# Altium footprint library OTHER.PCBLIB: 126 footprints (part 1 of 8)
Each footprint in its own frame and in the unit in brackets; x right, y up, seen from the top. Pads: shape width x height; smd on the part's side, far side on the other; paste and mask are expansions set on the pad; w line width, h text height; cw(c..) or ccw(c..) is an arc to the next point about the centre after c.
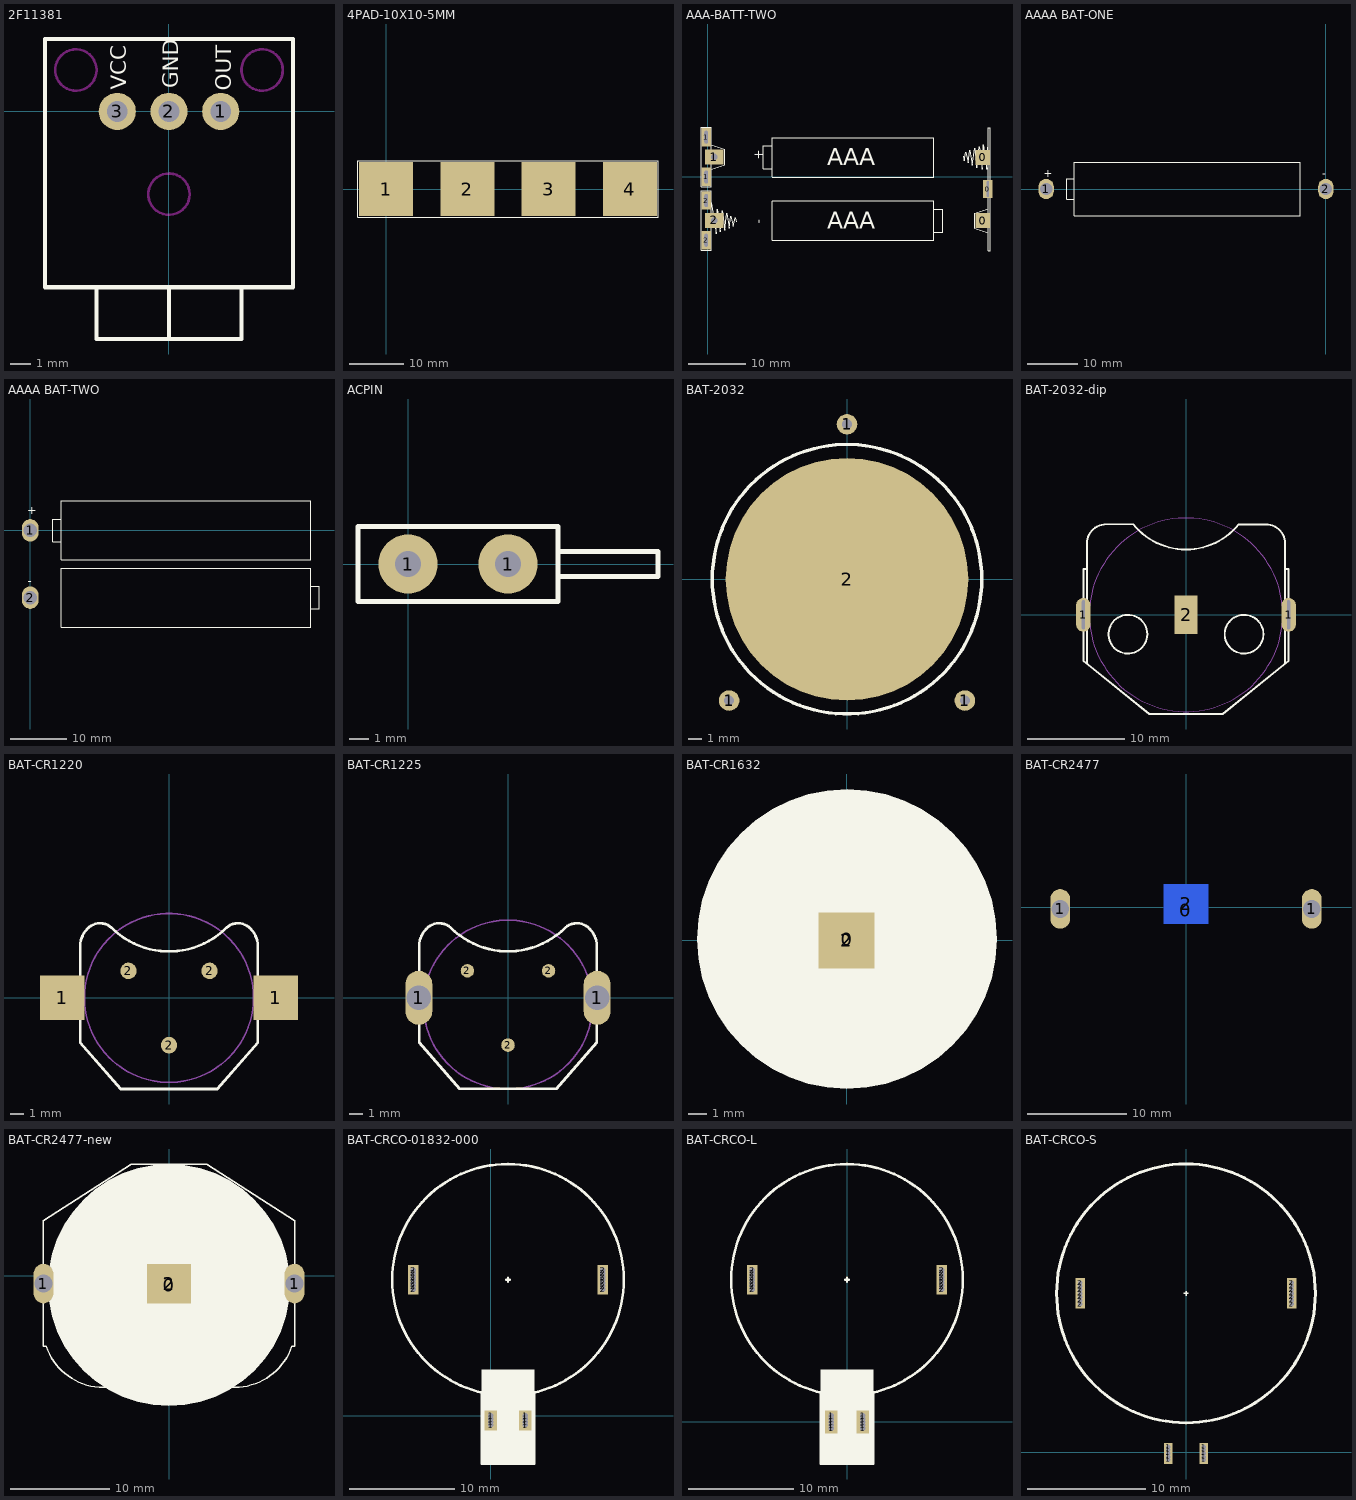
[diagram p0: the footprints below, top view; thin cyan lines are the x and y axes]

## 2F11381 [mm]
pads (3):
  round 1.8 hole 1: 1(2.5,0) 2(0,0) 3(-2.5,0)
TopOverlay:
  lines w0.203: -3.5,-8.5 -3.5,-11 3.5,-11 3.5,-8.5 ; 0,-11 0,-8.5 ; 0,-8.5 -6,-8.5 -6,3.5 6,3.5 6,-8.5 0,-8.5
  text "OUT" at 3,1 h0.76
  text "VCC" at -2.074,1.049 h0.76
  text "GND" at 0.45,1.124 h0.76
KeepOutLayer:
  circle w0.127: c0,-4 r1
  circle w0.127: c4.5,2 r1
  circle w0.127: c-4.5,2 r1

## 4PAD-10X10-5MM [mm]
pads (4):
  rect 10x10 smd: 1(0,0) 2(15,0) 3(30,0) 4(45,0)
TopOverlay:
  lines w0.127: -5.2,-5.2 -5.2,5.2 50.2,5.2 50.2,-5.2 -5.2,-5.2

## AAA-BATT-TWO [mm] "AAA-BATT-TWO"
pads (9):
  rect 2.5x2.6 smd: 0(47.7,-7.6) 0(47.703,3.406)
  rect 1.6x3.2 hole 0.42 slot 2.7 at 90 deg: 0(48.6,-2.1)
  rect 1.6x3.2 hole 0.6 slot 2.2 at 90 deg: 1(-0.3,0) 1(-0.3,6.9) 2(-0.3,-11) 2(-0.3,-4.1)
  rect 3.2x2.6 hole 1.2: 1(1.1,3.45) 2(1.1,-7.55)
TopOverlay:
  lines w0.127: 11.1,1.4 9.6,1.4 9.6,5.4 11.1,5.4 ; 11.2,-4.2 11.2,-11 39.2,-11 39.2,-4.2 ; 11.2,-4.15 39.2,-4.15 ; 11.2,-0.05 39.2,-0.05 ; 11.2,0 11.2,6.8 39.2,6.8 39.2,0 ; 39.3,-9.6 40.8,-9.6 40.8,-5.6 39.3,-5.6
  lines w0.2: 0.596,-4.501 1.4,-9.9 1.6,-5.6 2.1,-9.5 2.5,-5.9 2.9,-9.3 3.3,-6.3 3.7,-8.9 4,-6.8 4.4,-8.6 4.7,-7.1 4.876,-7.806 ; 0.6,0 0.6,6.9 0.6,8.6 0.15,8.6 -0.75,8.6 -1.2,8.6 -1.2,-1.7 0.6,-1.7 0.6,0.2 ; 0.6,1.3 2.9,2.1 ; 0.6,5.6 2.9,4.8 ; 44.3,3.6 44.5,2.8 44.8,4.3 45.2,2.5 45.5,4.6 45.9,2 46.3,5 46.7,1.6 47.1,5.2 47.6,1.3 47.8,5.6 48.437,1.32 48.7,5.9 ; 48.7,-9.7 46.3,-8.952 46.3,-7.925 46.3,-6.575 46.3,-6.283 48.7,-5.5 ; 2.9,2.1 2.9,4.8 ; 2.9,2.1 2.9,4.8 ; -1.2,-12.7 0.6,-12.7 0.6,-11 0.6,-4.1 0.6,-2.4 -1.2,-2.4 -1.2,-12.7 ; 48.7,-12.8 49,-12.8 49,8.5 48.7,8.5 48.7,-12.8
  text "+" at 9.5,3 h1.52
  text "-" at 9.5,-8.1 h1.52
  text "AAA" at 20.7,2 h3
  text "AAA" at 20.7,-9 h3

## AAAA BAT-ONE [mm]
pads (2):
  oval 3x4 hole 2.4: 1(-55,0) 2(0,0)
TopOverlay:
  lines w0.127: -49.5,-2 -51,-2 -51,2 -49.5,2 ; -49.5,-5.25 -49.5,5.25 -5,5.25 -5,-5.25 -49.5,-5.25
  text "+" at -55.5,2.3 h1.52
  text "-" at -0.7,2.3 h1.52

## AAAA BAT-TWO [mm]
pads (2):
  oval 3x4 hole 2.4: 1(0,0) 2(0,-12)
TopOverlay:
  lines w0.127: 5.5,-2 4,-2 4,2 5.5,2 ; 50,-14 51.5,-14 51.5,-10 50,-10 ; 5.5,-17.25 5.5,-6.75 50,-6.75 50,-17.25 5.5,-17.25 ; 5.5,-5.25 5.5,5.25 50,5.25 50,-5.25 5.5,-5.25
  text "-" at -0.4,-9.7 h1.52
  text "+" at -0.5,2.9 h1.52

## ACPIN [mm]
pads (2):
  round 3 hole 1.3: 1(0,0) 1(5.08,0)
TopOverlay:
  lines w0.25: 7.62,-0.635 12.7,-0.635 12.7,0.635 7.62,0.635 ; -2.54,-1.905 7.62,-1.905 7.62,1.905 -2.54,1.905 -2.54,-1.905

## BAT-2032 [mil]
pads (4):
  round 60 hole 30: 1(-344.49,-354.33) 1(0,452.76) 1(344.49,-354.33)
  round 708.66 smd: 2(0,0)
TopOverlay:
  circle w10: c0,0 r393.7

## BAT-2032-dip [mm] "BAT-2032-dip"
pads (3):
  oval 1.5x3.5 hole 0.3 slot 3 at 90 deg: 1(-10.6,0) 1(10.6,0)
  rect 2.4x4 smd: 2(0,0)
TopOverlay:
  circle w0.2: c6,-2 r2
  circle w0.2: c-6,-2 r2
  lines w0.2: -10.25,-5 -10.25,7.354 cw(c-8.25,7.354) -8.25,9.354 -5.447,9.353 ccw(c0,13.75) 5.447,9.353 ; -10.25,4.75 -10.6,4.75 -10.6,0 -10.6,-4.75 -3.8,-10.25 3.8,-10.25 10.6,-4.75 10.6,0 10.6,4.75 10.25,4.75 ; 5.45,9.35 8.25,9.35 cw(c8.25,7.35) 10.25,7.35 10.25,-5
Mechanical1:
  circle w0.127: c0,0 r10

## BAT-CR1220 [mm] "BAT-CR1220"
pads (5):
  rect 3.3x3.3 smd: 1(-7.885,0) 1(7.885,0)
  oval 1.2x1.22 smd: 2(-3,2) 2(0,-3.5) 2(3,2)
TopOverlay:
  lines w0.2: -6.575,-3.3 -3.575,-6.74 3.575,-6.74 6.575,-3.3 6.575,3.5 6.575,3.833 ccw(c4.783,3.833) 6.05,5.1 ccw(c5.1,4.249) 4.249,5.199 cw(c0,9.448) -4.249,5.199 ccw(c-5.1,4.249) -6.05,5.1 ccw(c-4.783,3.833) -6.575,3.833 -6.575,3.5 -6.575,-3.3
Mechanical1:
  circle w0.127: c0,0 r6.25

## BAT-CR1225 [mm] "BAT-CR1225"
pads (5):
  oval 2x4 hole 1.8: 1(-6.6,0) 1(6.6,0)
  round 1 smd: 2(-3,2) 2(0,-3.5) 2(3,2)
TopOverlay:
  lines w0.2: -6.575,-3.3 -6.575,3.5 -6.575,3.833 cw(c-4.783,3.833) -6.05,5.1 cw(c-5.1,4.249) -4.249,5.199 ccw(c0,9.448) 4.249,5.199 cw(c5.1,4.249) 6.05,5.1 cw(c4.783,3.833) 6.575,3.833 6.575,3.5 6.575,-3.3 3.575,-6.74 -3.575,-6.74 -6.575,-3.3
Mechanical1:
  circle w0.127: c0,-0.5 r6.25

## BAT-CR1632 [mm] "BAT-CR1632"
pads (2):
  round 16 on Top Overlay: 0(0.025,0.075)
  rect 3x3 smd: 2(0,0)

## BAT-CR2477 [mm] "BAT-CR2477"
pads (4):
  round 24.5 on Bottom Overlay: 0(0,-0.325)
  oval 2x4 hole 1.8: 1(-12.7,-0.175) 1(12.7,-0.175)
  rect 4.5x4 smd far side: 2(0,0.325)
BottomOverlay:
  lines w0.127: -12.7,-6.425 ccw(c-7.275,-5.25) -3.644,-9.449 cw(c0.005,-13.154) 3.711,-9.505 ccw(c7.275,-5.25) 12.7,-6.425 12.7,5.925 3.8,11.925 -3.8,11.925 -12.7,5.925 -12.7,-6.425

## BAT-CR2477-new [mm] "BAT-CR2477-new"
pads (4):
  round 24.5 on Top Overlay: 0(0,-0.95)
  oval 2x4 hole 1.8: 1(-12.7,-0.8) 1(12.7,-0.8)
  rect 4.5x4 smd: 2(0,-0.8)
TopOverlay:
  lines w0.127: -4.21,-10.794 cw(c0,-13.848) 4.241,-10.837 ; -4.204,-10.808 cw(c-6.617,-5.186) -12.412,-7.15 -12.7,-7.15 -12.7,5.55 -3.8,11.3 3.8,11.3 12.7,5.55 12.7,-7.15 12.412,-7.15 cw(c6.617,-5.186) 4.246,-10.825

## BAT-CRCO-01832-000 [mm]
pads (22):
  rect 1.2x1 hole 0.5: 1(0,0) 1(0,-0.9) 1(0,-0.6) 1(0,-0.3) 1(3.3,-0.9) 1(3.3,-0.6) 1(3.3,-0.3) 1(3.3,0)
  rect 1x1 hole 0.5: 2(-7.35,12) 2(-7.35,12.3) 2(-7.35,12.6) 2(-7.35,12.9) 2(-7.35,13.2) 2(-7.35,13.5) 2(-7.35,13.8) 2(10.65,12) 2(10.65,12.3) 2(10.65,12.6) 2(10.65,12.9) 2(10.65,13.2) 2(10.65,13.5) 2(10.65,13.8)
TopOverlay:
  circle w0.254: c1.65,12.9 r11
  rectangle: -0.85,-4.6 4.15,4.4
  lines w0.2: -0.85,2.2 -0.85,-4.6 4.15,-4.6 4.15,2.2 ; 1.45,12.9 1.85,12.9 ; 1.65,12.7 1.65,13.1

## BAT-CRCO-L [mm]
pads (24):
  rect 1.2x1 hole 0.5: 1(-1.5,-0.6) 1(-1.5,-0.3) 1(-1.5,0) 1(-1.5,0.3) 1(-1.5,0.6) 1(1.5,-0.6) 1(1.5,-0.3) 1(1.5,0) 1(1.5,0.3) 1(1.5,0.6)
  rect 1x1 hole 0.5: 2(-9,12.6) 2(-9,12.9) 2(-9,13.2) 2(-9,13.5) 2(-9,13.8) 2(-9,14.1) 2(-9,14.4) 2(9,12.6) 2(9,12.9) 2(9,13.2) 2(9,13.5) 2(9,13.8) 2(9,14.1) 2(9,14.4)
TopOverlay:
  circle w0.254: c0,13.5 r11
  rectangle: -2.5,-4 2.5,5
  lines w0.2: -2.5,2.8 -2.5,-4 2.5,-4 2.5,2.8 ; -0.2,13.5 0.2,13.5 ; 0,13.3 0,13.7

## BAT-CRCO-S [mm]
pads (24):
  rect 0.7x0.7 hole 0.4: 1(-1.5,-0.65) 1(-1.5,-0.4) 1(-1.5,-0.1) 1(-1.5,0.2) 1(-1.5,0.45) 1(1.5,-0.65) 1(1.5,-0.4) 1(1.5,-0.1) 1(1.5,0.2) 1(1.5,0.45)
  rect 0.8x0.8 hole 0.4: 2(-9,12.6) 2(-9,12.9) 2(-9,13.2) 2(-9,13.5) 2(-9,13.8) 2(-9,14.1) 2(-9,14.4) 2(9,12.6) 2(9,12.9) 2(9,13.2) 2(9,13.5) 2(9,13.8) 2(9,14.1) 2(9,14.4)
TopOverlay:
  circle w0.254: c0,13.5 r11
  lines w0.127: -0.2,13.5 0.2,13.5 ; 0,13.3 0,13.7